# Altium integrated library TI Power Management Lighting and Display.IntLib: 745 symbols (part 18 of 48)
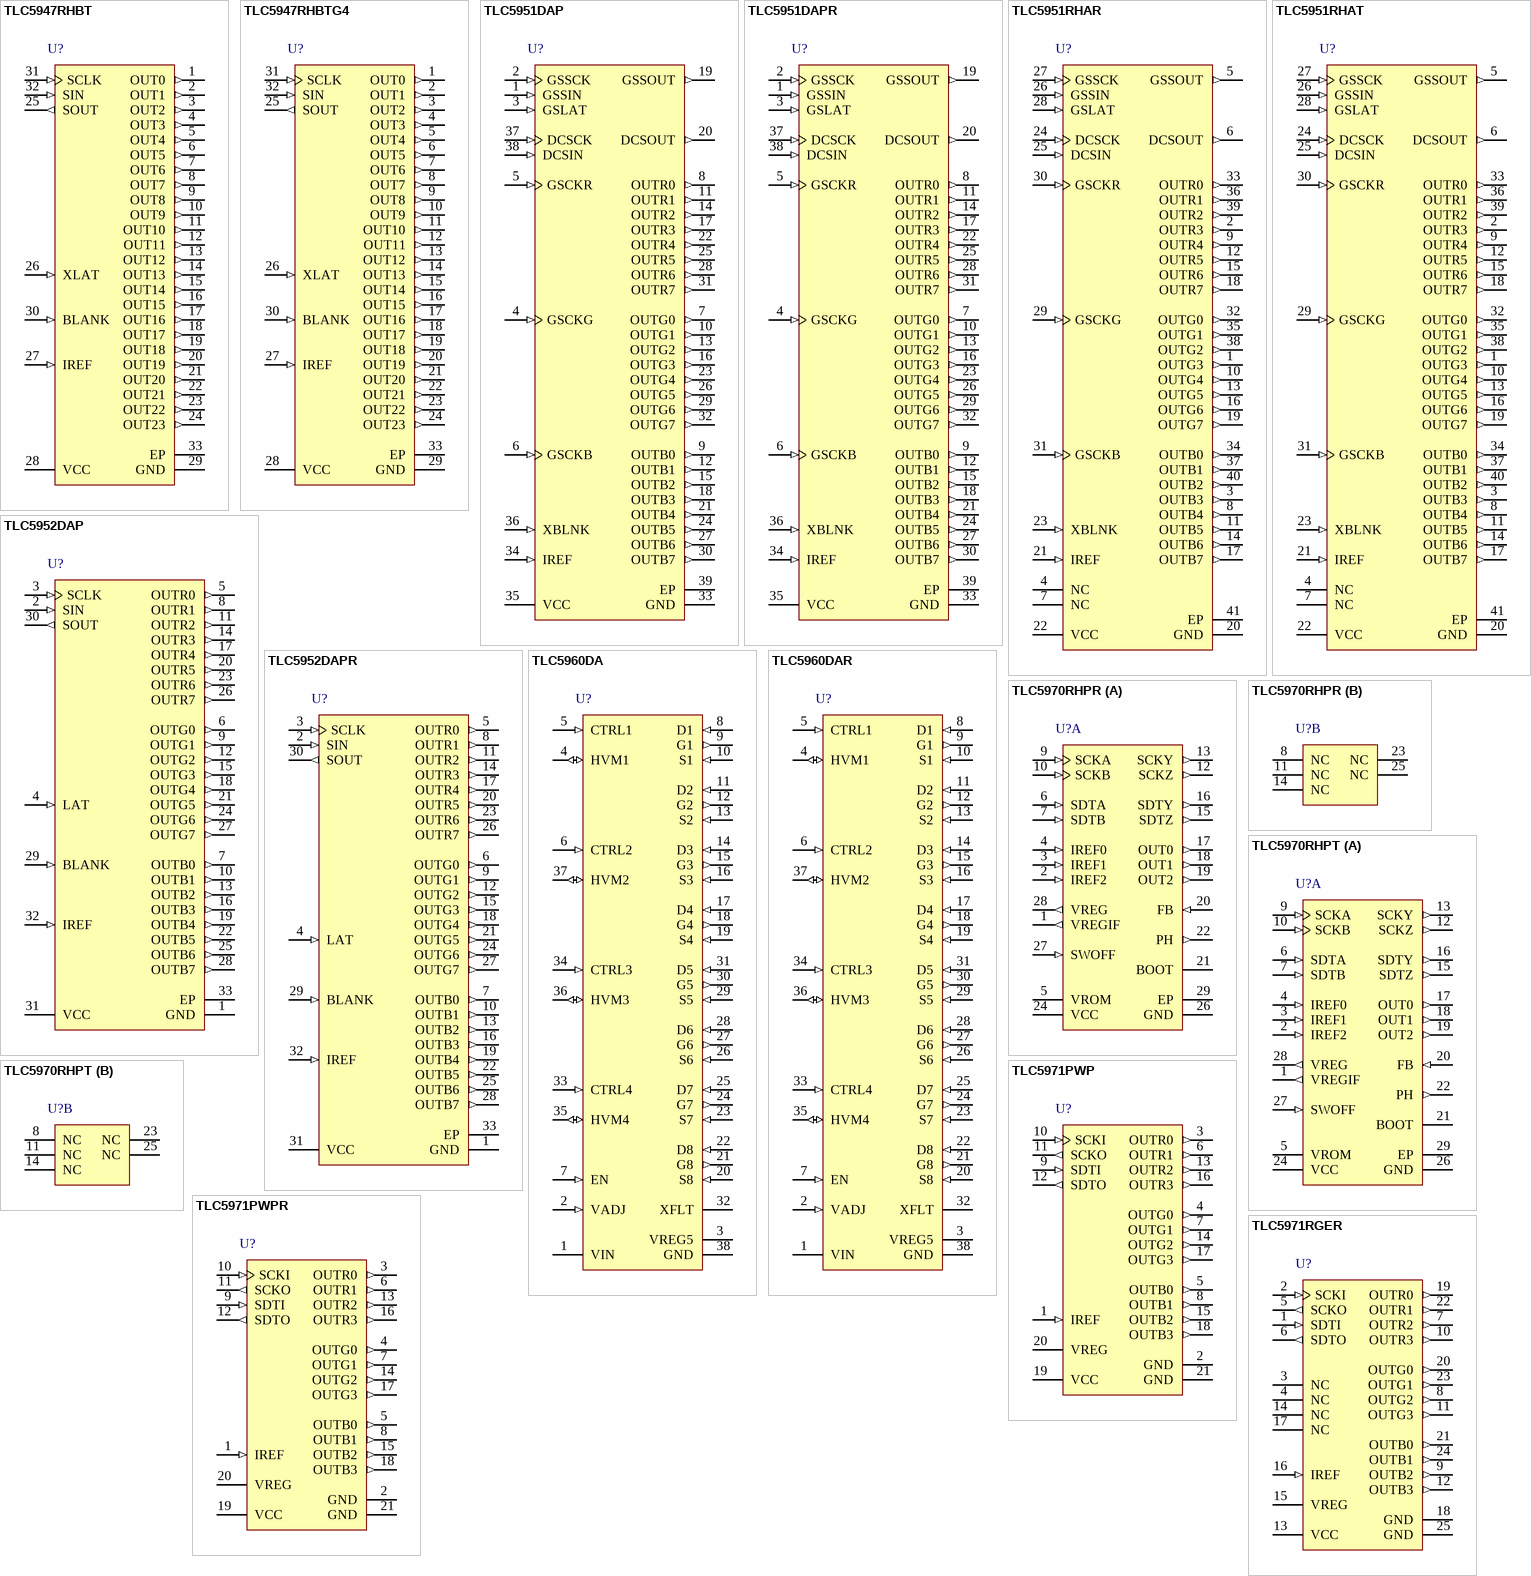
[diagram p48: symbols TLC5947RHBT to TLC5971RGER]

## TLC5960DA
designator U?
8-Channel LED Driver Controller with Integrated Intelligent Thermal Controller, 10 to 28 V, -40 to 85 degC, 38-pin SOP (DA38), Green (RoHS & no Sb/Br); Manufacturer: Texas Instruments; PartNumber: TLC5960DA; Dimming: TRUE; Rating: Catalog; Vin(Max)(V): 28; Vin(Min)(V): 10; DatasheetVersion: SBVS147; PackageVersion: 4040066/F; PackageReference: DA38; PackageDescription: 38-Pin Plastic Small-Outline Package, Body 6.10 x 12.50 mm, Pitch 0.65 mm; Supplier 1: Digi-Key; Supplier Part Number 1: TLC5960DA-ND; Supplier 2: Newark; Supplier Part Number 2: 01T0728; Supplier 3: Mouser; Supplier Part Number 3: 595-TLC5960DA; Eco-Plan: Green (RoHS & no Sb/Br); SubFamily: LED Driver; Mounting Technology: Surface Mount; Code_JEDEC: MO-153; ComponentLink1Description: Manufacturer URL; ComponentLink1URL: http://www.ti.com/; ComponentLink2Description: Datasheet; ComponentLink2URL: http://www.ti.com/general/docs/lit/getliterature.tsp?genericPartNumber=TLC5960&fileType=pdf; ComponentLink3Description: Package Specification; ComponentLink3URL: http://www.ti.com/lit/ml/mtss002e/mtss002e.pdf
footprint TI-DA38_N (SOP, 38-Leads, Body 12.5x6.1mm, Pitch 0.65mm, IPC Medium Density)
footprint TI-DA38_L (SOP, 38-Leads, Body 12.5x6.1mm, Pitch 0.65mm, IPC High Density)
footprint TI-DA38_M (SOP, 38-Leads, Body 12.5x6.1mm, Pitch 0.65mm, IPC Low Density)
pins: 1 VIN (power) "Supply voltage input", 2 VADJ (in) "Analog dimming input", 3 VREG5 (power) "Internal linear regulator 5V output", 4 HVM1 (io) "DC/DC feedback interface for thermal control. HVM4 is also used to set LED short detection threshold during 4CH and 8CH HVM modes (see the Flexible Configurations of the iHVM section).", 5 CTRL1 (in) "Parallel PWM input control interface. High turns on corresponding channels. Configuration depends on the HVM mode.", 6 CTRL2 (in) "Parallel PWM input control interface. High turns on corresponding channels. Configuration depends on the HVM mode.", 7 EN (in) "High enables driver control from CTRL1 to CTRL4. Low disables driver control from CTRL inputs", 8 D1 (in) "External FET drain node sense voltage input", 9 G1 (out) "External FET gate driver output", 10 S1 (in) "External FET source node sense voltage input", 11 D2 (in) "External FET drain node sense voltage input", 12 G2 (out) "External FET gate driver output", 13 S2 (in) "External FET source node sense voltage input", 14 D3 (in) "External FET drain node sense voltage input", 15 G3 (out) "External FET gate driver output", 16 S3 (in) "External FET source node sense voltage input", 17 D4 (in) "External FET drain node sense voltage input", 18 G4 (out) "External FET gate driver output", 19 S4 (in) "External FET source node sense voltage input", 20 S8 (in) "External FET source node sense voltage input", 21 G8 (out) "External FET gate driver output", 22 D8 (in) "External FET drain node sense voltage input", 23 S7 (in) "External FET source node sense voltage input", 24 G7 (out) "External FET gate driver output", 25 D7 (in) "External FET drain node sense voltage input", 26 S6 (in) "External FET source node sense voltage input", 27 G6 (out) "External FET gate driver output", 28 D6 (in) "External FET drain node sense voltage input", 29 S5 (in) "External FET source node sense voltage input", 30 G5 (out) "External FET gate driver output", 31 D5 (in) "External FET drain node sense voltage input", 32 XFLT (oc) "Fault detection notifying buffer output (open drain)", 33 CTRL4 (in) "Parallel PWM input control interface. High turns on corresponding channels. Configuration depends on the HVM mode.", 34 CTRL3 (in) "Parallel PWM input control interface. High turns on corresponding channels. Configuration depends on the HVM mode.", 35 HVM4 (io) "DC/DC feedback interface for thermal control. HVM4 is also used to set LED short detection threshold during 4CH and 8CH HVM modes (see the Flexible Configurations of the iHVM section).", 36 HVM3 (io) "DC/DC feedback interface for thermal control. HVM4 is also used to set LED short detection threshold during 4CH and 8CH HVM modes (see the Flexible Configurations of the iHVM section).", 37 HVM2 (io) "DC/DC feedback interface for thermal control. HVM4 is also used to set LED short detection threshold during 4CH and 8CH HVM modes (see the Flexible Configurations of the iHVM section).", 38 GND (power) "Common ground"

## TLC5960DAR
designator U?
8-Channel LED Driver Controller with Integrated Intelligent Thermal Controller, 10 to 28 V, -40 to 85 degC, 38-pin SOP (DA38), Green (RoHS & no Sb/Br); Manufacturer: Texas Instruments; PartNumber: TLC5960DAR; Dimming: TRUE; Rating: Catalog; Vin(Max)(V): 28; Vin(Min)(V): 10; DatasheetVersion: SBVS147; PackageVersion: 4040066/F; PackageReference: DA38; PackageDescription: 38-Pin Plastic Small-Outline Package, Body 6.10 x 12.50 mm, Pitch 0.65 mm; Supplier 1: Digi-Key; Supplier Part Number 1: 296-27795-2-ND; Supplier 2: Digi-Key; Supplier Part Number 2: 296-27795-1-ND; Supplier 3: Digi-Key; Supplier Part Number 3: 296-27795-6-ND; Supplier 4: Newark; Supplier Part Number 4: 01T0729; Supplier 5: Mouser; Supplier Part Number 5: 595-TLC5960DAR; Eco-Plan: Green (RoHS & no Sb/Br); SubFamily: LED Driver; Mounting Technology: Surface Mount; Code_JEDEC: MO-153; ComponentLink1Description: Manufacturer URL; ComponentLink1URL: http://www.ti.com/; ComponentLink2Description: Datasheet; ComponentLink2URL: http://www.ti.com/general/docs/lit/getliterature.tsp?genericPartNumber=TLC5960&fileType=pdf; ComponentLink3Description: Package Specification; ComponentLink3URL: http://www.ti.com/lit/ml/mtss002e/mtss002e.pdf
footprint TI-DA38_N (SOP, 38-Leads, Body 12.5x6.1mm, Pitch 0.65mm, IPC Medium Density)
footprint TI-DA38_L (SOP, 38-Leads, Body 12.5x6.1mm, Pitch 0.65mm, IPC High Density)
footprint TI-DA38_M (SOP, 38-Leads, Body 12.5x6.1mm, Pitch 0.65mm, IPC Low Density)
pins: 1 VIN (power) "Supply voltage input", 2 VADJ (in) "Analog dimming input", 3 VREG5 (power) "Internal linear regulator 5V output", 4 HVM1 (io) "DC/DC feedback interface for thermal control. HVM4 is also used to set LED short detection threshold during 4CH and 8CH HVM modes (see the Flexible Configurations of the iHVM section).", 5 CTRL1 (in) "Parallel PWM input control interface. High turns on corresponding channels. Configuration depends on the HVM mode.", 6 CTRL2 (in) "Parallel PWM input control interface. High turns on corresponding channels. Configuration depends on the HVM mode.", 7 EN (in) "High enables driver control from CTRL1 to CTRL4. Low disables driver control from CTRL inputs", 8 D1 (in) "External FET drain node sense voltage input", 9 G1 (out) "External FET gate driver output", 10 S1 (in) "External FET source node sense voltage input", 11 D2 (in) "External FET drain node sense voltage input", 12 G2 (out) "External FET gate driver output", 13 S2 (in) "External FET source node sense voltage input", 14 D3 (in) "External FET drain node sense voltage input", 15 G3 (out) "External FET gate driver output", 16 S3 (in) "External FET source node sense voltage input", 17 D4 (in) "External FET drain node sense voltage input", 18 G4 (out) "External FET gate driver output", 19 S4 (in) "External FET source node sense voltage input", 20 S8 (in) "External FET source node sense voltage input", 21 G8 (out) "External FET gate driver output", 22 D8 (in) "External FET drain node sense voltage input", 23 S7 (in) "External FET source node sense voltage input", 24 G7 (out) "External FET gate driver output", 25 D7 (in) "External FET drain node sense voltage input", 26 S6 (in) "External FET source node sense voltage input", 27 G6 (out) "External FET gate driver output", 28 D6 (in) "External FET drain node sense voltage input", 29 S5 (in) "External FET source node sense voltage input", 30 G5 (out) "External FET gate driver output", 31 D5 (in) "External FET drain node sense voltage input", 32 XFLT (oc) "Fault detection notifying buffer output (open drain)", 33 CTRL4 (in) "Parallel PWM input control interface. High turns on corresponding channels. Configuration depends on the HVM mode.", 34 CTRL3 (in) "Parallel PWM input control interface. High turns on corresponding channels. Configuration depends on the HVM mode.", 35 HVM4 (io) "DC/DC feedback interface for thermal control. HVM4 is also used to set LED short detection threshold during 4CH and 8CH HVM modes (see the Flexible Configurations of the iHVM section).", 36 HVM3 (io) "DC/DC feedback interface for thermal control. HVM4 is also used to set LED short detection threshold during 4CH and 8CH HVM modes (see the Flexible Configurations of the iHVM section).", 37 HVM2 (io) "DC/DC feedback interface for thermal control. HVM4 is also used to set LED short detection threshold during 4CH and 8CH HVM modes (see the Flexible Configurations of the iHVM section).", 38 GND (power) "Common ground"

## TLC5970RHPR
designator U?
3-Channel, 12-Bit PWM LED Driver with Buck DC-DC Converter and Differential Signal Interface, 10 to 36 V, -40 to 85 degC, 28-pin QFN (RHP28), Green (RoHS & no Sb/Br); Manufacturer: Texas Instruments; PartNumber: TLC5970RHPR; Rating: Catalog; Vin(Max)(V): 36; Vin(Min)(V): 10; DatasheetVersion: SBVS140A; PackageVersion: 4205387/C; PackageReference: RHP28-4450X4450TP; PackageDescription: 28-Lead, Plastic Flat Pack, Body Size 6 x 6 mm, Pitch 0.65 mm; Supplier 1: Digi-Key; Supplier Part Number 1: 296-27240-2-ND; Supplier 2: Digi-Key; Supplier Part Number 2: 296-27240-1-ND; Supplier 3: Digi-Key; Supplier Part Number 3: 296-27240-6-ND; Supplier 4: Newark; Supplier Part Number 4: 72R6577; Supplier 5: Mouser; Supplier Part Number 5: 595-TLC5970RHPR; Eco-Plan: Green (RoHS & no Sb/Br); SubFamily: LED Driver; Mounting Technology: Surface Mount; ComponentLink1Description: Manufacturer URL; ComponentLink1URL: http://www.ti.com/; ComponentLink2Description: Datasheet; ComponentLink2URL: http://www.ti.com/general/docs/lit/getliterature.tsp?genericPartNumber=TLC5970&fileType=pdf; ComponentLink3Description: Package Specification; ComponentLink3URL: http://www.ti.com/litv/pdf/mpqf154b
footprint TI-RHP28-4450X4450TP_V (QFN, 28-Leads, Body 6x6mm, Pitch 0.65mm, Thermal Pad 4.45x4.45mm)
part A pins: 1 VREGIF (out) "Internal regulator output for the differential interface circuit. This pin requires a 0.1 uF decoupling capacitor. This output cannot be used for any other function and no current can be pulled from this output.", 2 IREF2 (in) "The resistors connected from IREF0, IREF1, and IREF2 to GND set the maximum sink current for OUT0, OUT1, and OUT2, respectively.", 3 IREF1 (in) "The resistors connected from IREF0, IREF1, and IREF2 to GND set the maximum sink current for OUT0, OUT1, and OUT2, respectively.", 4 IREF0 (in) "The resistors connected from IREF0, IREF1, and IREF2 to GND set the maximum sink current for OUT0, OUT1, and OUT2, respectively.", 5 VROM (power) "EEPROM writing power supply. When this pin level is 19 V, EEPROM can be programmed for dot correction data. This pin must be open in normal operation. This terminal is pulled down to GND by approximately a 10 k ohm resistor (See Datasheet)", 6 SDTA (in) "Noninverting serial data input", 7 SDTB (in) "Inverting serial data input", 9 SCKA (in) "Noninverting data shift clock input. All data in the Common Shift Register are shifted to the MSB side by 1 bit and synchronized to the rising edge of the differential clock generated by SCKA and SCKB. The differential data (See Datasheet)", 10 SCKB (in) "Inverting data shift clock input. All data in the shift register are shifted to the MSB side by 1 bit synchronized to the rising edge of the differential clock generated by SCKA and SCKB. The differential data made by SDTA (See Datasheet)", 12 SCKZ (out) "Inverting serial data shift clock output", 13 SCKY (out) "Noninverting serial data shift clock output", 15 SDTZ (out) "Inverting serial data output", 16 SDTY (out) "Noninverting serial data output", 17 OUT0 (out) "Constant-current sink output. Multiple outputs can be tied together to increase the constant-current capability.", 18 OUT1 (out) "Constant-current sink output. Multiple outputs can be tied together to increase the constant-current capability.", 19 OUT2 (out) "Constant-current sink output. Multiple outputs can be tied together to increase the constant-current capability.", 20 FB (in) "Feedback voltage input for the converter and power-supply for differential signal interface output and LED driver. Connect this pin to the dc/dc converter output voltage. The FB pin must not be opened, otherwise higher (See Datasheet)", 21 BOOT "Boost capacitor for the high-side power MOSFET gate driver. A capacitor is connected between BOOT and PH.", 22 PH (out) "Source of the high-side power MOSFET. Connected to an external inductor and diode.", 24 VCC (power) "Power-supply voltage", 26 GND (power) "Power ground", 27 SWOFF (in) "Disable buck converter. When SWOFF is connected to VREG, the buck converter is not operated and the OVP/SCP flag is not set even if the device is in an error condition. When SWOFF is low, the buck converter is operated. This (See Datasheet)", 28 VREG (out) "Internal regulator output. This pin requires a 0.01 uF decoupling capacitor to ground. This output cannot be used for any other function and no current can be pulled from this output.", 29 EP (power) "The RHP package thermal pad is electrically connected to ground inside the package. This pad must be connected to the ground plane on the PCB for best thermal performance and for mechanical reasons. This pad cannot be (See Datasheet)"
part B pins: 8 NC "No internal connection. These pins are not electrically connected to the IC. They should be soldered to the PCB. Connecting these pins to ground provides improved thermal performance.", 11 NC "No internal connection. These pins are not electrically connected to the IC. They should be soldered to the PCB. Connecting these pins to ground provides improved thermal performance.", 14 NC "No internal connection. These pins are not electrically connected to the IC. They should be soldered to the PCB. Connecting these pins to ground provides improved thermal performance.", 23 NC "No internal connection. These pins are not electrically connected to the IC. They should be soldered to the PCB. Connecting these pins to ground provides improved thermal performance.", 25 NC "No internal connection. These pins are not electrically connected to the IC. They should be soldered to the PCB. Connecting these pins to ground provides improved thermal performance."

## TLC5970RHPT
designator U?
3-Channel, 12-Bit PWM LED Driver with Buck DC-DC Converter and Differential Signal Interface, 10 to 36 V, -40 to 85 degC, 28-pin QFN (RHP28), Green (RoHS & no Sb/Br); Manufacturer: Texas Instruments; PartNumber: TLC5970RHPT; Rating: Catalog; Vin(Max)(V): 36; Vin(Min)(V): 10; DatasheetVersion: SBVS140A; PackageVersion: 4205387/C; PackageReference: RHP28-4450X4450TP; PackageDescription: 28-Lead, Plastic Flat Pack, Body Size 6 x 6 mm, Pitch 0.65 mm; Supplier 1: Digi-Key; Supplier Part Number 1: TLC5970RHPT-ND; Supplier 2: Newark; Supplier Part Number 2: 72R6578; Supplier 3: Mouser; Supplier Part Number 3: 595-TLC5970RHPT; Eco-Plan: Green (RoHS & no Sb/Br); SubFamily: LED Driver; Mounting Technology: Surface Mount; ComponentLink1Description: Manufacturer URL; ComponentLink1URL: http://www.ti.com/; ComponentLink2Description: Datasheet; ComponentLink2URL: http://www.ti.com/general/docs/lit/getliterature.tsp?genericPartNumber=TLC5970&fileType=pdf; ComponentLink3Description: Package Specification; ComponentLink3URL: http://www.ti.com/litv/pdf/mpqf154b
footprint TI-RHP28-4450X4450TP_V (QFN, 28-Leads, Body 6x6mm, Pitch 0.65mm, Thermal Pad 4.45x4.45mm)
part A pins: 1 VREGIF (out) "Internal regulator output for the differential interface circuit. This pin requires a 0.1 uF decoupling capacitor. This output cannot be used for any other function and no current can be pulled from this output.", 2 IREF2 (in) "The resistors connected from IREF0, IREF1, and IREF2 to GND set the maximum sink current for OUT0, OUT1, and OUT2, respectively.", 3 IREF1 (in) "The resistors connected from IREF0, IREF1, and IREF2 to GND set the maximum sink current for OUT0, OUT1, and OUT2, respectively.", 4 IREF0 (in) "The resistors connected from IREF0, IREF1, and IREF2 to GND set the maximum sink current for OUT0, OUT1, and OUT2, respectively.", 5 VROM (power) "EEPROM writing power supply. When this pin level is 19 V, EEPROM can be programmed for dot correction data. This pin must be open in normal operation. This terminal is pulled down to GND by approximately a 10 k ohm resistor (See Datasheet)", 6 SDTA (in) "Noninverting serial data input", 7 SDTB (in) "Inverting serial data input", 9 SCKA (in) "Noninverting data shift clock input. All data in the Common Shift Register are shifted to the MSB side by 1 bit and synchronized to the rising edge of the differential clock generated by SCKA and SCKB. The differential data (See Datasheet)", 10 SCKB (in) "Inverting data shift clock input. All data in the shift register are shifted to the MSB side by 1 bit synchronized to the rising edge of the differential clock generated by SCKA and SCKB. The differential data made by SDTA (See Datasheet)", 12 SCKZ (out) "Inverting serial data shift clock output", 13 SCKY (out) "Noninverting serial data shift clock output", 15 SDTZ (out) "Inverting serial data output", 16 SDTY (out) "Noninverting serial data output", 17 OUT0 (out) "Constant-current sink output. Multiple outputs can be tied together to increase the constant-current capability.", 18 OUT1 (out) "Constant-current sink output. Multiple outputs can be tied together to increase the constant-current capability.", 19 OUT2 (out) "Constant-current sink output. Multiple outputs can be tied together to increase the constant-current capability.", 20 FB (in) "Feedback voltage input for the converter and power-supply for differential signal interface output and LED driver. Connect this pin to the dc/dc converter output voltage. The FB pin must not be opened, otherwise higher (See Datasheet)", 21 BOOT "Boost capacitor for the high-side power MOSFET gate driver. A capacitor is connected between BOOT and PH.", 22 PH (out) "Source of the high-side power MOSFET. Connected to an external inductor and diode.", 24 VCC (power) "Power-supply voltage", 26 GND (power) "Power ground", 27 SWOFF (in) "Disable buck converter. When SWOFF is connected to VREG, the buck converter is not operated and the OVP/SCP flag is not set even if the device is in an error condition. When SWOFF is low, the buck converter is operated. This (See Datasheet)", 28 VREG (out) "Internal regulator output. This pin requires a 0.01 uF decoupling capacitor to ground. This output cannot be used for any other function and no current can be pulled from this output.", 29 EP (power) "The RHP package thermal pad is electrically connected to ground inside the package. This pad must be connected to the ground plane on the PCB for best thermal performance and for mechanical reasons. This pad cannot be (See Datasheet)"
part B pins: 8 NC "No internal connection. These pins are not electrically connected to the IC. They should be soldered to the PCB. Connecting these pins to ground provides improved thermal performance.", 11 NC "No internal connection. These pins are not electrically connected to the IC. They should be soldered to the PCB. Connecting these pins to ground provides improved thermal performance.", 14 NC "No internal connection. These pins are not electrically connected to the IC. They should be soldered to the PCB. Connecting these pins to ground provides improved thermal performance.", 23 NC "No internal connection. These pins are not electrically connected to the IC. They should be soldered to the PCB. Connecting these pins to ground provides improved thermal performance.", 25 NC "No internal connection. These pins are not electrically connected to the IC. They should be soldered to the PCB. Connecting these pins to ground provides improved thermal performance."

## TLC5971PWP
designator U?
12-Channel, 16-Bit ES-PWM RGB LED Driver with 3.3 V Linear Regulator, 6 to 17 V, -40 to 85 degC, 20-pin SOP (PWP20), Green (RoHS & no Sb/Br); Manufacturer: Texas Instruments; PartNumber: TLC5971PWP; Rating: Catalog; Vin(Max)(V): 17; Vin(Min)(V): 6; DatasheetVersion: SBVS146C; PackageVersion: 4073225-4/I; PackageReference: PWP20-2965X2290TP; PackageDescription: 20-Lead, Plastic Small Outline, Body Size 4.4 x 6.5 mm, Pitch 0.65 mm; Supplier 1: Digi-Key; Supplier Part Number 1: TLC5971PWP-ND; Supplier 2: Mouser; Supplier Part Number 2: 595-TLC5971PWP; Eco-Plan: Green (RoHS & no Sb/Br); SubFamily: LED Driver; Mounting Technology: Surface Mount; Code_JEDEC: MO-153; ComponentLink1Description: Manufacturer URL; ComponentLink1URL: http://www.ti.com/; ComponentLink2Description: Datasheet; ComponentLink2URL: http://www.ti.com/general/docs/lit/getliterature.tsp?genericPartNumber=TLC5971&fileType=pdf; ComponentLink3Description: Package Specification; ComponentLink3URL: http://www.ti.com/litv/pdf/mhts001g
footprint TI-PWP20-2965X2290TP_N (SOP, 20-Leads, Body 6.5x4.4mm, Pitch 0.65mm, Thermal Pad 2.965x2.29mm, IPC Medium Density)
footprint TI-PWP20-2965X2290TP_L (SOP, 20-Leads, Body 6.5x4.4mm, Pitch 0.65mm, Thermal Pad 2.965x2.29mm, IPC High Density)
footprint TI-PWP20-2965X2290TP_M (SOP, 20-Leads, Body 6.5x4.4mm, Pitch 0.65mm, Thermal Pad 2.965x2.29mm, IPC Low Density)
pins: 1 IREF (in) "Maximum current programming terminal. A resistor connected between IREF and GND sets the maximum current for every constant- current output. When this terminal is directly connected to GND, all outputs are forced off. The (See Datasheet)", 2 GND (power) "Power ground terminal", 3 OUTR0 (out) "RED constant-current outputs. Multiple outputs can be configured in parallel to increase the constant-current capability. Different voltages can be applied to each output.", 4 OUTG0 (out) "GREEN constant-current outputs. Multiple outputs can be configured in parallel to increase the constant-current capability. Different voltages can be applied to each output.", 5 OUTB0 (out) "BLUE constant-current outputs. Multiple outputs can be configured in parallel to increase the constant-current capability. Different voltages can be applied to each output.", 6 OUTR1 (out) "RED constant-current outputs. Multiple outputs can be configured in parallel to increase the constant-current capability. Different voltages can be applied to each output.", 7 OUTG1 (out) "GREEN constant-current outputs. Multiple outputs can be configured in parallel to increase the constant-current capability. Different voltages can be applied to each output.", 8 OUTB1 (out) "BLUE constant-current outputs. Multiple outputs can be configured in parallel to increase the constant-current capability. Different voltages can be applied to each output.", 9 SDTI (in) "Serial data input for the 224-bit shift register", 10 SCKI (in) "Serial data shift clock input. Data present on SDTI are shifted to the LSB of the 224-bit shift register with the SCKI rising edge Data in the shift register are shifted toward the MSB at each SCKI rising edge. The MSB data (See Datasheet)", 11 SCKO (out) "Serial data shift clock output. The input shift clock signal from SCKI is adjusted to the timing of the serial data output for SDTO and the signal is then output at SCKO.", 12 SDTO (out) "Serial data output of the 224-bit shift register. SDTO is connected to the MSB of the 224-bit shift register. Data are clocked out at the SCKI rising edge.", 13 OUTR2 (out) "RED constant-current outputs. Multiple outputs can be configured in parallel to increase the constant-current capability. Different voltages can be applied to each output.", 14 OUTG2 (out) "GREEN constant-current outputs. Multiple outputs can be configured in parallel to increase the constant-current capability. Different voltages can be applied to each output.", 15 OUTB2 (out) "BLUE constant-current outputs. Multiple outputs can be configured in parallel to increase the constant-current capability. Different voltages can be applied to each output.", 16 OUTR3 (out) "RED constant-current outputs. Multiple outputs can be configured in parallel to increase the constant-current capability. Different voltages can be applied to each output.", 17 OUTG3 (out) "GREEN constant-current outputs. Multiple outputs can be configured in parallel to increase the constant-current capability. Different voltages can be applied to each output.", 18 OUTB3 (out) "BLUE constant-current outputs. Multiple outputs can be configured in parallel to increase the constant-current capability. Different voltages can be applied to each output.", 19 VCC (power) "Power-supply terminal", 20 VREG (power) "Internal linear voltage regulator output. A decoupling capacitor of 1 uF must be connected. This output can be used for external devices as a 3.3-V power supply. This terminal can be connected with the VREG terminal of other (See Datasheet)", 21 GND (power) "Power ground terminal"

## TLC5971PWPR
designator U?
12-Channel, 16-Bit ES-PWM RGB LED Driver with 3.3 V Linear Regulator, 6 to 17 V, -40 to 85 degC, 20-pin SOP (PWP20), Green (RoHS & no Sb/Br); Manufacturer: Texas Instruments; PartNumber: TLC5971PWPR; Rating: Catalog; Vin(Max)(V): 17; Vin(Min)(V): 6; DatasheetVersion: SBVS146C; PackageVersion: 4073225-4/I; PackageReference: PWP20-2965X2290TP; PackageDescription: 20-Lead, Plastic Small Outline, Body Size 4.4 x 6.5 mm, Pitch 0.65 mm; Supplier 1: Digi-Key; Supplier Part Number 1: 296-27796-2-ND; Supplier 2: Digi-Key; Supplier Part Number 2: 296-27796-1-ND; Supplier 3: Digi-Key; Supplier Part Number 3: 296-27796-6-ND; Supplier 4: Newark; Supplier Part Number 4: 01T0730; Supplier 5: Mouser; Supplier Part Number 5: 595-TLC5971PWPR; Eco-Plan: Green (RoHS & no Sb/Br); SubFamily: LED Driver; Mounting Technology: Surface Mount; Code_JEDEC: MO-153; ComponentLink1Description: Manufacturer URL; ComponentLink1URL: http://www.ti.com/; ComponentLink2Description: Datasheet; ComponentLink2URL: http://www.ti.com/general/docs/lit/getliterature.tsp?genericPartNumber=TLC5971&fileType=pdf; ComponentLink3Description: Package Specification; ComponentLink3URL: http://www.ti.com/litv/pdf/mhts001g
footprint TI-PWP20-2965X2290TP_N (SOP, 20-Leads, Body 6.5x4.4mm, Pitch 0.65mm, Thermal Pad 2.965x2.29mm, IPC Medium Density)
footprint TI-PWP20-2965X2290TP_L (SOP, 20-Leads, Body 6.5x4.4mm, Pitch 0.65mm, Thermal Pad 2.965x2.29mm, IPC High Density)
footprint TI-PWP20-2965X2290TP_M (SOP, 20-Leads, Body 6.5x4.4mm, Pitch 0.65mm, Thermal Pad 2.965x2.29mm, IPC Low Density)
pins: 1 IREF (in) "Maximum current programming terminal. A resistor connected between IREF and GND sets the maximum current for every constant- current output. When this terminal is directly connected to GND, all outputs are forced off. The (See Datasheet)", 2 GND (power) "Power ground terminal", 3 OUTR0 (out) "RED constant-current outputs. Multiple outputs can be configured in parallel to increase the constant-current capability. Different voltages can be applied to each output.", 4 OUTG0 (out) "GREEN constant-current outputs. Multiple outputs can be configured in parallel to increase the constant-current capability. Different voltages can be applied to each output.", 5 OUTB0 (out) "BLUE constant-current outputs. Multiple outputs can be configured in parallel to increase the constant-current capability. Different voltages can be applied to each output.", 6 OUTR1 (out) "RED constant-current outputs. Multiple outputs can be configured in parallel to increase the constant-current capability. Different voltages can be applied to each output.", 7 OUTG1 (out) "GREEN constant-current outputs. Multiple outputs can be configured in parallel to increase the constant-current capability. Different voltages can be applied to each output.", 8 OUTB1 (out) "BLUE constant-current outputs. Multiple outputs can be configured in parallel to increase the constant-current capability. Different voltages can be applied to each output.", 9 SDTI (in) "Serial data input for the 224-bit shift register", 10 SCKI (in) "Serial data shift clock input. Data present on SDTI are shifted to the LSB of the 224-bit shift register with the SCKI rising edge Data in the shift register are shifted toward the MSB at each SCKI rising edge. The MSB data (See Datasheet)", 11 SCKO (out) "Serial data shift clock output. The input shift clock signal from SCKI is adjusted to the timing of the serial data output for SDTO and the signal is then output at SCKO.", 12 SDTO (out) "Serial data output of the 224-bit shift register. SDTO is connected to the MSB of the 224-bit shift register. Data are clocked out at the SCKI rising edge.", 13 OUTR2 (out) "RED constant-current outputs. Multiple outputs can be configured in parallel to increase the constant-current capability. Different voltages can be applied to each output.", 14 OUTG2 (out) "GREEN constant-current outputs. Multiple outputs can be configured in parallel to increase the constant-current capability. Different voltages can be applied to each output.", 15 OUTB2 (out) "BLUE constant-current outputs. Multiple outputs can be configured in parallel to increase the constant-current capability. Different voltages can be applied to each output.", 16 OUTR3 (out) "RED constant-current outputs. Multiple outputs can be configured in parallel to increase the constant-current capability. Different voltages can be applied to each output.", 17 OUTG3 (out) "GREEN constant-current outputs. Multiple outputs can be configured in parallel to increase the constant-current capability. Different voltages can be applied to each output.", 18 OUTB3 (out) "BLUE constant-current outputs. Multiple outputs can be configured in parallel to increase the constant-current capability. Different voltages can be applied to each output.", 19 VCC (power) "Power-supply terminal", 20 VREG (power) "Internal linear voltage regulator output. A decoupling capacitor of 1 uF must be connected. This output can be used for external devices as a 3.3-V power supply. This terminal can be connected with the VREG terminal of other (See Datasheet)", 21 GND (power) "Power ground terminal"

## TLC5971RGER
designator U?
12-Channel, 16-Bit ES-PWM RGB LED Driver with 3.3 V Linear Regulator, 6 to 17 V, -40 to 85 degC, 24-pin QFN (RGE24), Green (RoHS & no Sb/Br); Manufacturer: Texas Instruments; PartNumber: TLC5971RGER; Rating: Catalog; Vin(Max)(V): 17; Vin(Min)(V): 6; DatasheetVersion: SBVS146C; PackageVersion: 4204104/G; PackageReference: RGE24-2700X2700TP; PackageDescription: 24-Pin Plastic Flat Pack, Body 4 x 4 mm, Pitch 0.5 mm; Supplier 1: Digi-Key; Supplier Part Number 1: 296-28448-2-ND; Supplier 2: Digi-Key; Supplier Part Number 2: 296-28448-1-ND; Supplier 3: Digi-Key; Supplier Part Number 3: 296-28448-6-ND; Supplier 4: Newark; Supplier Part Number 4: 46T0063; Supplier 5: Mouser; Supplier Part Number 5: 595-TLC5971RGER; Eco-Plan: Green (RoHS & no Sb/Br); SubFamily: LED Driver; Mounting Technology: Surface Mount; Code_JEDEC: MO-220; ComponentLink1Description: Manufacturer URL; ComponentLink1URL: http://www.ti.com/; ComponentLink2Description: Datasheet; ComponentLink2URL: http://www.ti.com/general/docs/lit/getliterature.tsp?genericPartNumber=TLC5971&fileType=pdf; ComponentLink3Description: Package Specification; ComponentLink3URL: http://www.ti.com/litv/pdf/mpqf124f
footprint TI-RGE24-2700X2700TP_V (QFN, 24-Leads, Body 4x4mm, Pitch 0.5mm, Thermal Pad 2.7x2.7mm)
pins: 1 SDTI (in) "Serial data input for the 224-bit shift register", 2 SCKI (in) "Serial data shift clock input. Data present on SDTI are shifted to the LSB of the 224-bit shift register with the SCKI rising edge Data in the shift register are shifted toward the MSB at each SCKI rising edge. The MSB data (See Datasheet)", 3 NC "No internal connection", 4 NC "No internal connection", 5 SCKO (out) "Serial data shift clock output. The input shift clock signal from SCKI is adjusted to the timing of the serial data output for SDTO and the signal is then output at SCKO.", 6 SDTO (out) "Serial data output of the 224-bit shift register. SDTO is connected to the MSB of the 224-bit shift register. Data are clocked out at the SCKI rising edge.", 7 OUTR2 (out) "RED constant-current outputs. Multiple outputs can be configured in parallel to increase the constant-current capability. Different voltages can be applied to each output.", 8 OUTG2 (out) "GREEN constant-current outputs. Multiple outputs can be configured in parallel to increase the constant-current capability. Different voltages can be applied to each output.", 9 OUTB2 (out) "BLUE constant-current outputs. Multiple outputs can be configured in parallel to increase the constant-current capability. Different voltages can be applied to each output.", 10 OUTR3 (out) "RED constant-current outputs. Multiple outputs can be configured in parallel to increase the constant-current capability. Different voltages can be applied to each output.", 11 OUTG3 (out) "GREEN constant-current outputs. Multiple outputs can be configured in parallel to increase the constant-current capability. Different voltages can be applied to each output.", 12 OUTB3 (out) "BLUE constant-current outputs. Multiple outputs can be configured in parallel to increase the constant-current capability. Different voltages can be applied to each output.", 13 VCC (power) "Power-supply terminal", 14 NC "No internal connection", 15 VREG (power) "Internal linear voltage regulator output. A decoupling capacitor of 1 uF must be connected. This output can be used for external devices as a 3.3-V power supply. This terminal can be connected with the VREG terminal of other (See Datasheet)", 16 IREF (in) "Maximum current programming terminal. A resistor connected between IREF and GND sets the maximum current for every constant- current output. When this terminal is directly connected to GND, all outputs are forced off. The (See Datasheet)", 17 NC "No internal connection", 18 GND (power) "Power ground terminal", 19 OUTR0 (out) "RED constant-current outputs. Multiple outputs can be configured in parallel to increase the constant-current capability. Different voltages can be applied to each output.", 20 OUTG0 (out) "GREEN constant-current outputs. Multiple outputs can be configured in parallel to increase the constant-current capability. Different voltages can be applied to each output.", 21 OUTB0 (out) "BLUE constant-current outputs. Multiple outputs can be configured in parallel to increase the constant-current capability. Different voltages can be applied to each output.", 22 OUTR1 (out) "RED constant-current outputs. Multiple outputs can be configured in parallel to increase the constant-current capability. Different voltages can be applied to each output.", 23 OUTG1 (out) "GREEN constant-current outputs. Multiple outputs can be configured in parallel to increase the constant-current capability. Different voltages can be applied to each output.", 24 OUTB1 (out) "BLUE constant-current outputs. Multiple outputs can be configured in parallel to increase the constant-current capability. Different voltages can be applied to each output.", 25 GND (power) "Power ground terminal"

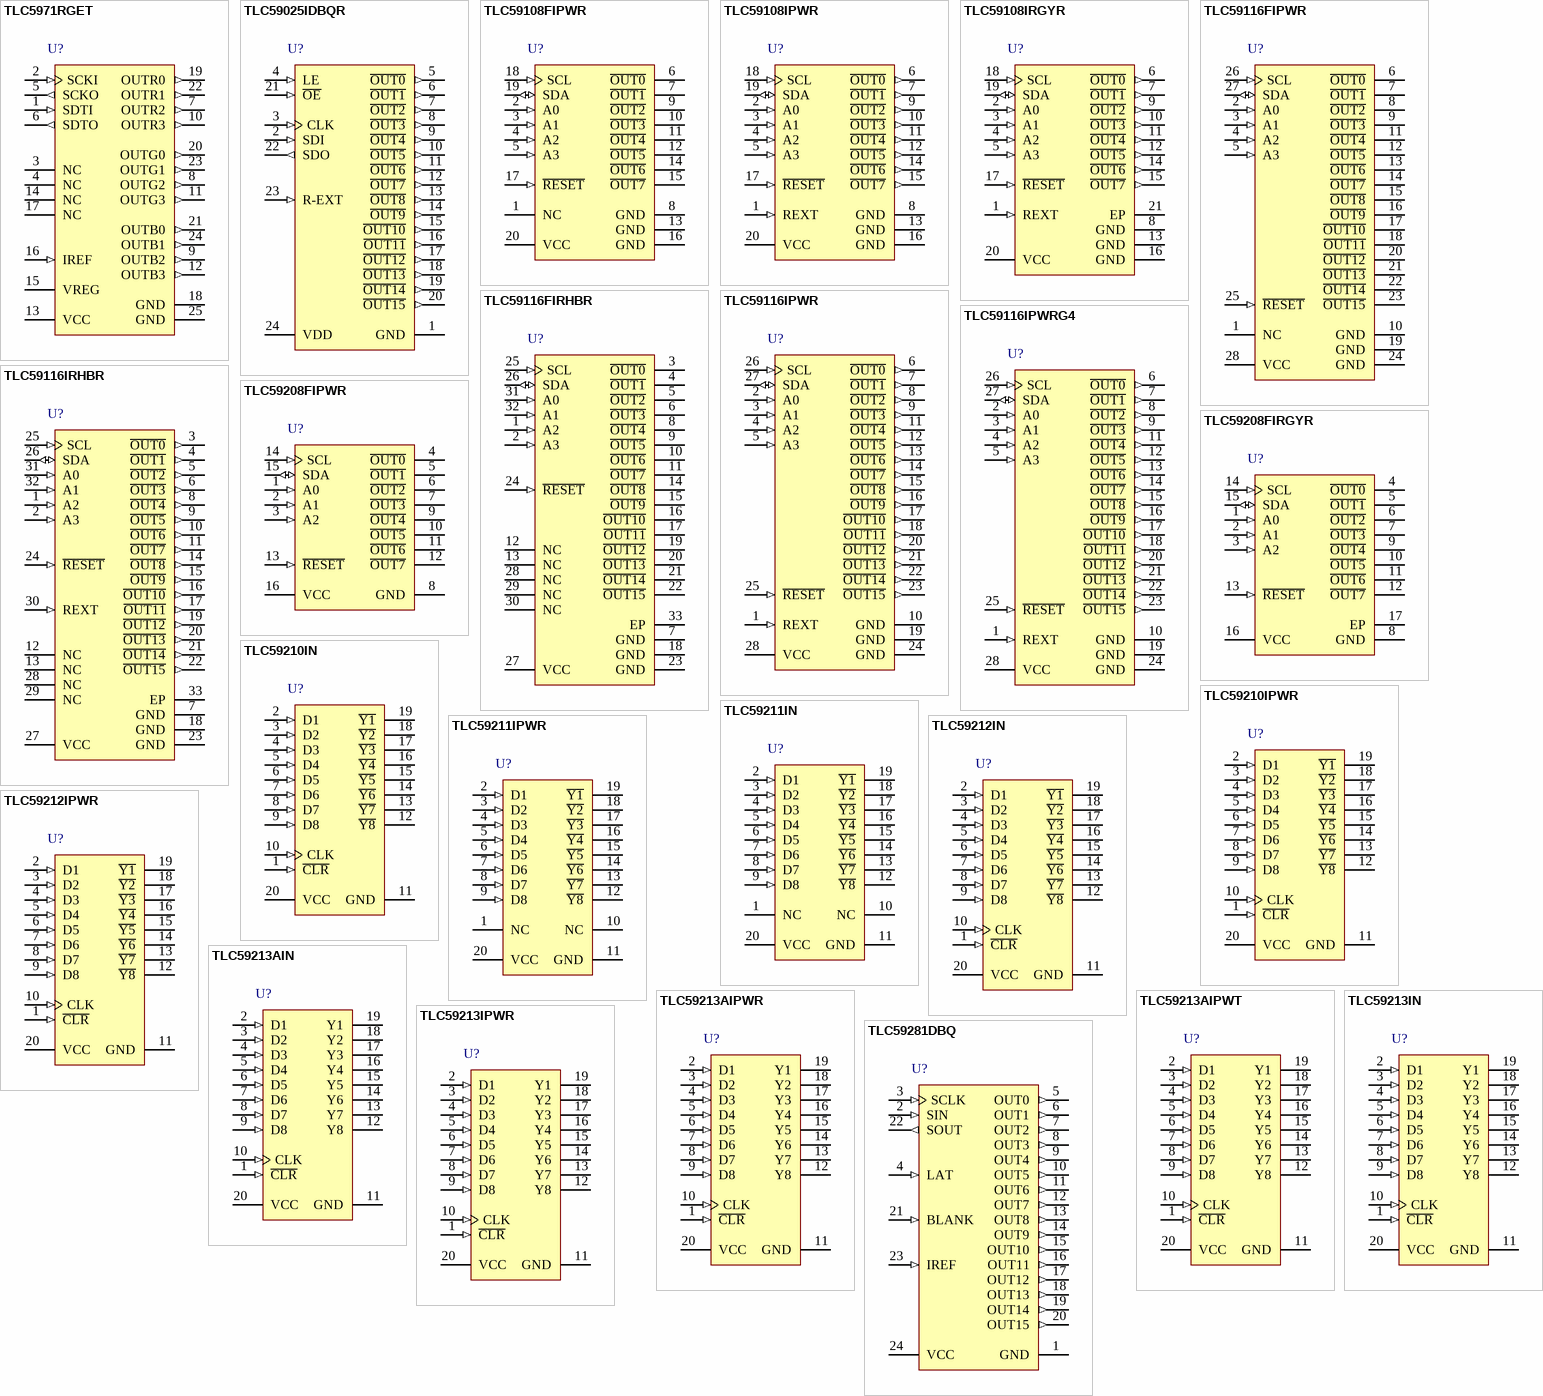
[diagram p13: symbols TLC5971RGET to TLC59281DBQ]

## TLC5971RGET
designator U?
12-Channel, 16-Bit ES-PWM RGB LED Driver with 3.3 V Linear Regulator, 6 to 17 V, -40 to 85 degC, 24-pin QFN (RGE24), Green (RoHS & no Sb/Br); Manufacturer: Texas Instruments; PartNumber: TLC5971RGET; Rating: Catalog; Vin(Max)(V): 17; Vin(Min)(V): 6; DatasheetVersion: SBVS146C; PackageVersion: 4204104/G; PackageReference: RGE24-2700X2700TP; PackageDescription: 24-Pin Plastic Flat Pack, Body 4 x 4 mm, Pitch 0.5 mm; Supplier 1: Digi-Key; Supplier Part Number 1: 296-32363-2-ND; Supplier 2: Digi-Key; Supplier Part Number 2: 296-32363-1-ND; Supplier 3: Digi-Key; Supplier Part Number 3: 296-32363-6-ND; Supplier 4: Newark; Supplier Part Number 4: 46T0064; Supplier 5: Mouser; Supplier Part Number 5: 595-TLC5971RGET; Eco-Plan: Green (RoHS & no Sb/Br); SubFamily: LED Driver; Mounting Technology: Surface Mount; Code_JEDEC: MO-220; ComponentLink1Description: Manufacturer URL; ComponentLink1URL: http://www.ti.com/; ComponentLink2Description: Datasheet; ComponentLink2URL: http://www.ti.com/general/docs/lit/getliterature.tsp?genericPartNumber=TLC5971&fileType=pdf; ComponentLink3Description: Package Specification; ComponentLink3URL: http://www.ti.com/litv/pdf/mpqf124f
footprint TI-RGE24-2700X2700TP_V (QFN, 24-Leads, Body 4x4mm, Pitch 0.5mm, Thermal Pad 2.7x2.7mm)
pins: 1 SDTI (in) "Serial data input for the 224-bit shift register", 2 SCKI (in) "Serial data shift clock input. Data present on SDTI are shifted to the LSB of the 224-bit shift register with the SCKI rising edge Data in the shift register are shifted toward the MSB at each SCKI rising edge. The MSB data (See Datasheet)", 3 NC "No internal connection", 4 NC "No internal connection", 5 SCKO (out) "Serial data shift clock output. The input shift clock signal from SCKI is adjusted to the timing of the serial data output for SDTO and the signal is then output at SCKO.", 6 SDTO (out) "Serial data output of the 224-bit shift register. SDTO is connected to the MSB of the 224-bit shift register. Data are clocked out at the SCKI rising edge.", 7 OUTR2 (out) "RED constant-current outputs. Multiple outputs can be configured in parallel to increase the constant-current capability. Different voltages can be applied to each output.", 8 OUTG2 (out) "GREEN constant-current outputs. Multiple outputs can be configured in parallel to increase the constant-current capability. Different voltages can be applied to each output.", 9 OUTB2 (out) "BLUE constant-current outputs. Multiple outputs can be configured in parallel to increase the constant-current capability. Different voltages can be applied to each output.", 10 OUTR3 (out) "RED constant-current outputs. Multiple outputs can be configured in parallel to increase the constant-current capability. Different voltages can be applied to each output.", 11 OUTG3 (out) "GREEN constant-current outputs. Multiple outputs can be configured in parallel to increase the constant-current capability. Different voltages can be applied to each output.", 12 OUTB3 (out) "BLUE constant-current outputs. Multiple outputs can be configured in parallel to increase the constant-current capability. Different voltages can be applied to each output.", 13 VCC (power) "Power-supply terminal", 14 NC "No internal connection", 15 VREG (power) "Internal linear voltage regulator output. A decoupling capacitor of 1 uF must be connected. This output can be used for external devices as a 3.3-V power supply. This terminal can be connected with the VREG terminal of other (See Datasheet)", 16 IREF (in) "Maximum current programming terminal. A resistor connected between IREF and GND sets the maximum current for every constant- current output. When this terminal is directly connected to GND, all outputs are forced off. The (See Datasheet)", 17 NC "No internal connection", 18 GND (power) "Power ground terminal", 19 OUTR0 (out) "RED constant-current outputs. Multiple outputs can be configured in parallel to increase the constant-current capability. Different voltages can be applied to each output.", 20 OUTG0 (out) "GREEN constant-current outputs. Multiple outputs can be configured in parallel to increase the constant-current capability. Different voltages can be applied to each output.", 21 OUTB0 (out) "BLUE constant-current outputs. Multiple outputs can be configured in parallel to increase the constant-current capability. Different voltages can be applied to each output.", 22 OUTR1 (out) "RED constant-current outputs. Multiple outputs can be configured in parallel to increase the constant-current capability. Different voltages can be applied to each output.", 23 OUTG1 (out) "GREEN constant-current outputs. Multiple outputs can be configured in parallel to increase the constant-current capability. Different voltages can be applied to each output.", 24 OUTB1 (out) "BLUE constant-current outputs. Multiple outputs can be configured in parallel to increase the constant-current capability. Different voltages can be applied to each output.", 25 GND (power) "Power ground terminal"

## TLC59025IDBQR
designator U?
Low-Power 16-Channel Constant-Current LED Sink Driver, 3 to 5.5 V, -40 to 85 degC, 24-pin SOP (DBQ24), Green (RoHS & no Sb/Br); Manufacturer: Texas Instruments; PartNumber: TLC59025IDBQR; Rating: Catalog; SubFamily: LED Driver; Vin(Max)(V): 5.5; Vin(Min)(V): 3; DatasheetVersion: SLVS934; PackageVersion: 4073301-4/H; PackageReference: DBQ24; PackageDescription: 24-Pin Plastic Small-Outline, Body 8.65 x 3.90 mm, Pitch 0.635 mm; Supplier 1: Digi-Key; Supplier Part Number 1: 296-24830-2-ND; Supplier 2: Digi-Key; Supplier Part Number 2: 296-24830-1-ND; Supplier 3: Digi-Key; Supplier Part Number 3: 296-24830-6-ND; Supplier 4: Farnell; Supplier Part Number 4: 1755713; Supplier 5: Farnell; Supplier Part Number 5: 1755713RL; Supplier 6: Newark; Supplier Part Number 6: 14R9903; Supplier 7: Mouser; Supplier Part Number 7: 595-TLC59025IDBQR; Eco-Plan: Green (RoHS & no Sb/Br); Mounting Technology: Surface Mount; Code_JEDEC: MO-137; ComponentLink1Description: Manufacturer URL; ComponentLink1URL: http://www.ti.com/; ComponentLink2Description: Datasheet; ComponentLink2URL: http://www.ti.com/general/docs/lit/getliterature.tsp?genericPartNumber=TLC59025&fileType=pdf; ComponentLink3Description: Package Specification; ComponentLink3URL: http://www.ti.com/litv/pdf/mpds211a
footprint TI-DBQ24_N (SOP, 24-Leads, Body 8.65x6mm, Pitch 0.635mm, IPC Medium Density)
footprint TI-DBQ24_L (SOP, 24-Leads, Body 8.65x6mm, Pitch 0.635mm, IPC High Density)
footprint TI-DBQ24_M (SOP, 24-Leads, Body 8.65x6mm, Pitch 0.635mm, IPC Low Density)
pins: 1 GND (power) "Ground for control logic and current sink", 2 SDI (in) "Serial-data input to the Shift register", 3 CLK (in) "Clock input for data shift on rising edge", 4 LE (in) "Data strobe input Serial data is transferred to the respective latch when LE is high.The data is latched when LE low.LE has an internal pull-down resistor.", 5 ~{OUT0} (out) "Constant-current output", 6 ~{OUT1} (out) "Constant-current output", 7 ~{OUT2} (out) "Constant-current output", 8 ~{OUT3} (out) "Constant-current output", 9 ~{OUT4} (out) "Constant-current output", 10 ~{OUT5} (out) "Constant-current output", 11 ~{OUT6} (out) "Constant-current output", 12 ~{OUT7} (out) "Constant-current output", 13 ~{OUT8} (out) "Constant-current output", 14 ~{OUT9} (out) "Constant-current output", 15 ~{OUT10} (out) "Constant-current output", 16 ~{OUT11} (out) "Constant-current output", 17 ~{OUT12} (out) "Constant-current output", 18 ~{OUT13} (out) "Constant-current output", 19 ~{OUT14} (out) "Constant-current output", 20 ~{OUT15} (out) "Constant-current output", 21 ~{OE} (in) "Output enable.When O\E\ is active (low), the output driver are enabled.When O\E\ is high ,all output drivers are turned OFF (blanked). O\E\ has an internal pullup resistor.", 22 SDO (out) "Serial-data output to the following SDI of next driver IC or to the microcontroller", 23 R-EXT (in) "Input used to connect an external resistor (Rext) for setting output currents", 24 VDD (power) "Supply voltage"

## TLC59108FIPWR
designator U?
8-Bit Fast-Mode Plus (FM+) I2C Bus LED Driver, 3 to 5.5 V, -40 to 85 degC, 20-pin SOP (PW20), Green (RoHS & no Sb/Br); Manufacturer: Texas Instruments; PartNumber: TLC59108FIPWR; Iout(Max)(A): 0.12; Vin(Max)(V): 5.5; Vin(Min)(V): 3; DatasheetVersion: SLDS162A; PackageVersion: 4040064-5/G; PackageReference: PW20; PackageDescription: 20-Pin Plastic Small Outline, Body 6.5 x 4.4 mm, 0.65 mm Pitch; Supplier 1: Digi-Key; Supplier Part Number 1: 296-25400-2-ND; Supplier 2: Digi-Key; Supplier Part Number 2: 296-25400-1-ND; Supplier 3: Digi-Key; Supplier Part Number 3: 296-25400-6-ND; Supplier 4: Newark; Supplier Part Number 4: 09R6478; Supplier 5: Mouser; Supplier Part Number 5: 595-TLC59108FIPWR; Eco-Plan: Green (RoHS & no Sb/Br); SubFamily: LED Driver; Mounting Technology: Surface Mount; Code_JEDEC: MO-153; ComponentLink1Description: Manufacturer URL; ComponentLink1URL: http://www.ti.com/; ComponentLink2Description: Datasheet; ComponentLink2URL: http://www.ti.com/general/docs/lit/getliterature.tsp?genericPartNumber=TLC59108F&fileType=pdf; ComponentLink3Description: Package Specification; ComponentLink3URL: http://www.ti.com.cn/cn/lit/ml/mpds362/mpds362.pdf
footprint TI-PW20_N (SOP, 20-Leads, Body 6.5x4.4mm, Pitch 0.65mm, IPC Medium Density)
footprint TI-PW20_L (SOP, 20-Leads, Body 6.5x4.4mm, Pitch 0.65mm, IPC High Density)
footprint TI-PW20_M (SOP, 20-Leads, Body 6.5x4.4mm, Pitch 0.65mm, IPC Low Density)
pins: 1 NC "No internal connection", 2 A0 (in) "Address input 0", 3 A1 (in) "Address input 1", 4 A2 (in) "Address input 2", 5 A3 (in) "Address input 3", 6 ~{OUT0} (oc) "Constant current output 0, LED ON at low", 7 ~{OUT1} (oc) "Constant current output 1, LED ON at low", 8 GND (power) "Ground", 9 ~{OUT2} (oc) "Constant current output 2, LED ON at low", 10 ~{OUT3} (oc) "Constant current output 3, LED ON at low", 11 ~{OUT4} (oc) "Constant current output 4, LED ON at low", 12 ~{OUT5} (oc) "Constant current output 5, LED ON at low", 13 GND (power) "Ground", 14 ~{OUT6} (oc) "Constant current output 6, LED ON at low", 15 ~{OUT7} (oc) "Constant current output 7, LED ON at low", 16 GND (power) "Ground", 17 ~{RESET} (in) "Active-low reset input", 18 SCL (in) "Serial clock input", 19 SDA (io) "Serial data input/output", 20 VCC (power) "Power supply"

## TLC59108IPWR
designator U?
8-Bit Fast Mode Plus (FM+) I2C Bus Constant-Current LED Sink Driver, 3 to 5.5 V, -40 to 85 degC, 20-pin SOP (PW20), Green (RoHS & no Sb/Br); Manufacturer: Texas Instruments; PartNumber: TLC59108IPWR; Iout(Max)(A): 0.12; SubFamily: LED Driver; Vin(Max)(V): 5.5; Vin(Min)(V): 3; DatasheetVersion: SLDS156A; PackageVersion: 4040064-5/G; PackageReference: PW20; PackageDescription: 20-Pin Plastic Small Outline, Body 6.5 x 4.4 mm, 0.65 mm Pitch; Supplier 1: Digi-Key; Supplier Part Number 1: 296-25340-2-ND; Supplier 2: Digi-Key; Supplier Part Number 2: 296-25340-1-ND; Supplier 3: Digi-Key; Supplier Part Number 3: 296-25340-6-ND; Supplier 4: Newark; Supplier Part Number 4: 09R6479; Supplier 5: Mouser; Supplier Part Number 5: 595-TLC59108IPWR; Eco-Plan: Green (RoHS & no Sb/Br); Mounting Technology: Surface Mount; Code_JEDEC: MO-153; ComponentLink1Description: Manufacturer URL; ComponentLink1URL: http://www.ti.com/; ComponentLink2Description: Datasheet; ComponentLink2URL: http://www.ti.com/general/docs/lit/getliterature.tsp?genericPartNumber=TLC59108&fileType=pdf; ComponentLink3Description: Package Specification; ComponentLink3URL: http://www.ti.com.cn/cn/lit/ml/mpds362/mpds362.pdf
footprint TI-PW20_N (SOP, 20-Leads, Body 6.5x4.4mm, Pitch 0.65mm, IPC Medium Density)
footprint TI-PW20_L (SOP, 20-Leads, Body 6.5x4.4mm, Pitch 0.65mm, IPC High Density)
footprint TI-PW20_M (SOP, 20-Leads, Body 6.5x4.4mm, Pitch 0.65mm, IPC Low Density)
pins: 1 REXT (in) "Input terminal used to connect an external resistor for setting up all output currents", 2 A0 (in) "Address input 0", 3 A1 (in) "Address input 1", 4 A2 (in) "Address input 2", 5 A3 (in) "Address input 3", 6 ~{OUT0} (out) "Constant current output 0, LED ON at low", 7 ~{OUT1} (out) "Constant current output 1, LED ON at low", 8 GND (power) "Ground", 9 ~{OUT2} (out) "Constant current output 2, LED ON at low", 10 ~{OUT3} (out) "Constant current output 3, LED ON at low", 11 ~{OUT4} (out) "Constant current output 4, LED ON at low", 12 ~{OUT5} (out) "Constant current output 5, LED ON at low", 13 GND (power) "Ground", 14 ~{OUT6} (out) "Constant current output 6, LED ON at low", 15 ~{OUT7} (out) "Constant current output 7, LED ON at low", 16 GND (power) "Ground", 17 ~{RESET} (in) "Active-low reset input", 18 SCL (in) "Serial clock input", 19 SDA (io) "Serial data input/output", 20 VCC (power) "Power supply"